# Altium footprint library SO16_W.PcbLib: 1 footprints
Each footprint in its own frame and in the unit in brackets; x right, y up, seen from the top. Pads: shape width x height; smd on the part's side, far side on the other; paste and mask are expansions set on the pad; w line width, h text height; cw(c..) or ccw(c..) is an arc to the next point about the centre after c.
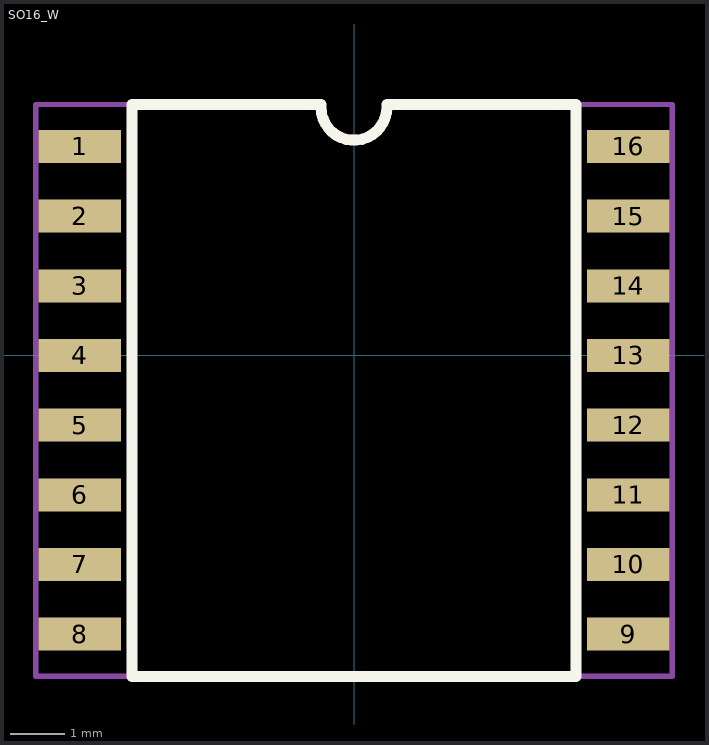
[diagram p0: the footprint, top view; thin cyan lines are the x and y axes]

## SO16_W [mm]
pads (16):
  rect 1.5x0.6 smd: 1(-5,3.81) 2(-5,2.54) 3(-5,1.27) 4(-5,0) 5(-5,-1.27) 6(-5,-2.54) 7(-5,-3.81) 8(-5,-5.08) 9(5,-5.08) 10(5,-3.81) 11(5,-2.54) 12(5,-1.27) 13(5,0) 14(5,1.27) 15(5,2.54) 16(5,3.81)
Top Overlay:
  lines w0.2: -0.602,4.523 ccw(c-0.002,4.523) 0.598,4.523 ; -0.602,4.575 -4.05,4.575 -4.05,-5.85 4.05,-5.85 4.05,4.575 0.598,4.575
Top Assembly:
  lines w0.1: -5.8,-5.85 5.8,-5.85 5.8,4.575 0.6,4.575 cw(c0,4.575) -0.6,4.575 -0.765,4.575 -5.8,4.575 -5.8,-5.85
  text "'.Designator'" at -0.85,-0.375 h0.7
3D body "User Library-SO-16W.STEP": height 2.48, standoff 0, extent -5.155,-5.8 5.155,4.53